# Altium footprint library extraComp.PcbLib: 2 footprints
Each footprint in its own frame and in the unit in brackets; x right, y up, seen from the top. Pads: shape width x height; smd on the part's side, far side on the other; paste and mask are expansions set on the pad; w line width, h text height; cw(c..) or ccw(c..) is an arc to the next point about the centre after c.
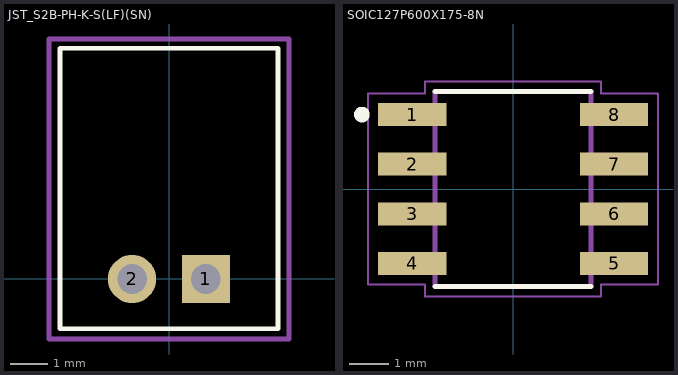
[diagram p0: the footprints below, top view; thin cyan lines are the x and y axes]

## JST_S2B-PH-K-S(LF)(SN) [mm]
pads (2):
  rect 1.308x1.308 hole 0.8: 1(1,0)
  round 1.308 hole 0.8: 2(-1,0)
Top Overlay:
  lines w0.127: -2.95,-1.35 2.95,-1.35 2.95,6.25 -2.95,6.25 -2.95,-1.35
Mechanical 1:
  lines w0.127: -3.25,-1.625 3.25,-1.625 3.25,6.5 -3.25,6.5 -3.25,-1.625

## SOIC127P600X175-8N [mm]
pads (8):
  rect 1.75x0.59 smd: 1(-2.585,1.905) 2(-2.585,0.635) 3(-2.585,-0.635) 4(-2.585,-1.905) 5(2.585,-1.905) 6(2.585,-0.635) 7(2.585,0.635) 8(2.585,1.905)
Top Overlay:
  circle w0.2: c-3.869,1.905 r0.1
  lines w0.127: -2,-2.5 2,-2.5 ; -2,2.5 2,2.5
Mechanical 1:
  lines w0.05: -3.71,-2.45 -2.25,-2.45 -2.25,-2.75 2.25,-2.75 2.25,-2.45 3.71,-2.45 3.71,2.45 2.25,2.45 2.25,2.75 -2.25,2.75 -2.25,2.45 -3.71,2.45 -3.71,-2.45
  lines w0.127: -2,-2.5 -2,2.5 2,2.5 2,-2.5 -2,-2.5